# EAGLE library part TL072 (library synth)
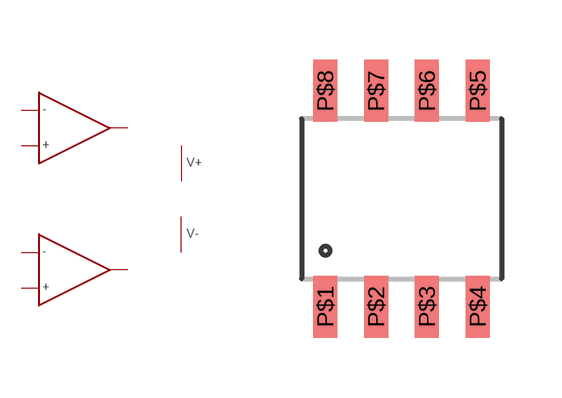
[diagram p4: symbol with the pads of SOIC8; footprint SOIC8]

Designator prefix -; gates G$1=OPAMP G$2=OPAMP G$3=RAILS

## TL072  [SOIC8]
P$1  G$1:OUT
P$2  G$1:IN-
P$3  G$1:IN+
P$4  G$3:V-
P$5  G$2:IN+
P$6  G$2:IN-
P$7  G$2:OUT
P$8  G$3:V+

## Footprint SOIC8 (pad centres in mm)
smd 0.6 x 1.55: P$1 -1.905,-2.7; P$2 -0.635,-2.7; P$3 0.635,-2.7; P$4 1.905,-2.7; P$5 1.905,2.7; P$6 0.635,2.7; P$7 -0.635,2.7; P$8 -1.905,2.7